# EAGLE library part MC34151 (library gost_micro)
MC34151 High Speed DualMOSFET Driver
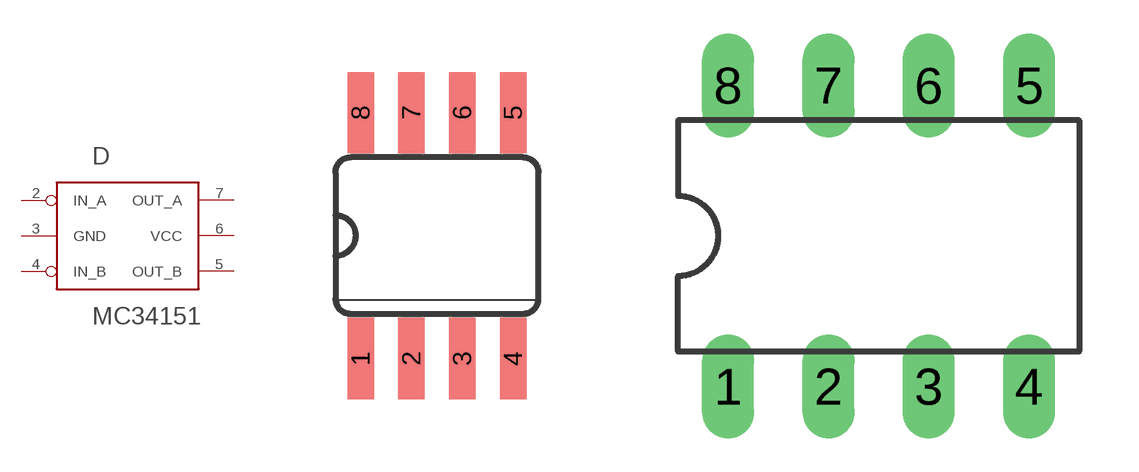
[diagram p22: symbol with the pads of SO08; footprints SO08, DIL08]

Designator prefix D

## MC34151D  [SO08]
2  IN_A  in
3  GND  sup
4  IN_B  in
5  OUT_B  out
6  VCC  sup
7  OUT_A  out

## MC34151P  [DIL08]
Pads as for SO08

## Footprint SO08 (pad centres in mm)
Small Outline package 8 150 mil
smd 0.66 x 2.032: 1 -1.905,-3.073; 2 -0.635,-3.073; 3 0.635,-3.073; 4 1.905,-3.073; 5 1.905,3.073; 6 0.635,3.073; 7 -0.635,3.073; 8 -1.905,3.073

## Footprint DIL08 (pad centres in mm)
Dual In Line Package
drill 0.813 long: 1 -3.81,-3.81; 2 -1.27,-3.81; 3 1.27,-3.81; 4 3.81,-3.81; 5 3.81,3.81; 6 1.27,3.81; 7 -1.27,3.81; 8 -3.81,3.81